# EAGLE library part PIC16F876A (library microchip)
PIC16F876A PIC16F876A product page <http://www.microchip.com/wwwproducts/en/PIC16F876A> Not Recommended for new designs Please consider this device PIC16F886 <http://www.microchip.com/wwwproducts/en/PIC16F886>
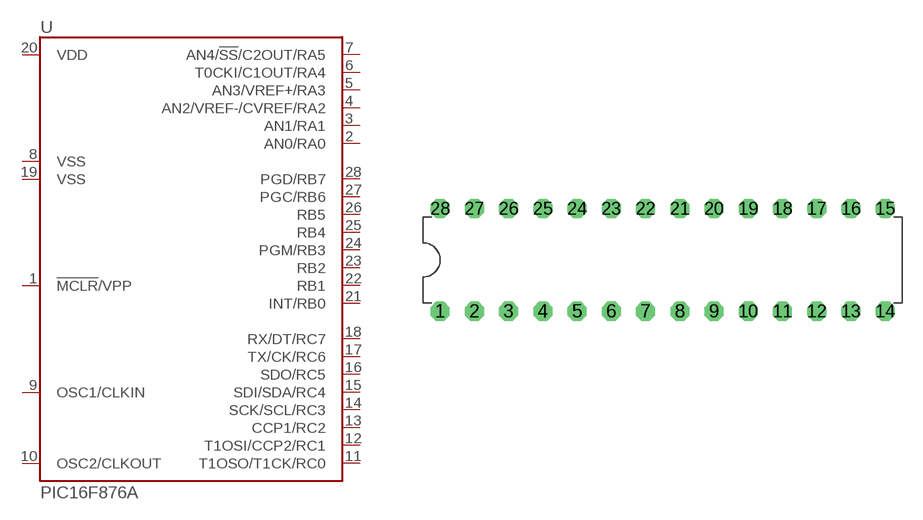
[diagram p0: symbol with the pads of DIL28N; footprint DIL28N]

Designator prefix U

## PIC16F876A/SP  [DIL28N]
1  !MCLR!/VPP  in
2  AN0/RA0
3  AN1/RA1
4  AN2/VREF-/CVREF/RA2
5  AN3/VREF+/RA3
6  T0CKI/C1OUT/RA4
7  AN4/!SS!/C2OUT/RA5
8  VSS  pwr
9  OSC1/CLKIN  in
10  OSC2/CLKOUT  out
11  T1OSO/T1CK/RC0
12  T1OSI/CCP2/RC1
13  CCP1/RC2
14  SCK/SCL/RC3
15  SDI/SDA/RC4
16  SDO/RC5
17  TX/CK/RC6
18  RX/DT/RC7
19  VSS  pwr
20  VDD  pwr
21  INT/RB0
22  RB1
23  RB2
24  PGM/RB3
25  RB4
26  RB5
27  PGC/RB6
28  PGD/RB7

## Footprint DIL28N (pad centres in mm)
drill 0.813 pad 1.422 octagon: 1 -16.51,-3.81; 2 -13.97,-3.81; 3 -11.43,-3.81; 4 -8.89,-3.81; 5 -6.35,-3.81; 6 -3.81,-3.81; 7 -1.27,-3.81; 8 1.27,-3.81; 9 3.81,-3.81; 10 6.35,-3.81; 11 8.89,-3.81; 12 11.43,-3.81; 13 13.97,-3.81; 14 16.51,-3.81; 15 16.51,3.81; 16 13.97,3.81; 17 11.43,3.81; 18 8.89,3.81; 19 6.35,3.81; 20 3.81,3.81; 21 1.27,3.81; 22 -1.27,3.81; 23 -3.81,3.81; 24 -6.35,3.81; 25 -8.89,3.81; 26 -11.43,3.81; 27 -13.97,3.81; 28 -16.51,3.81